# EAGLE library part MT29F16G08DAA (library SHC)
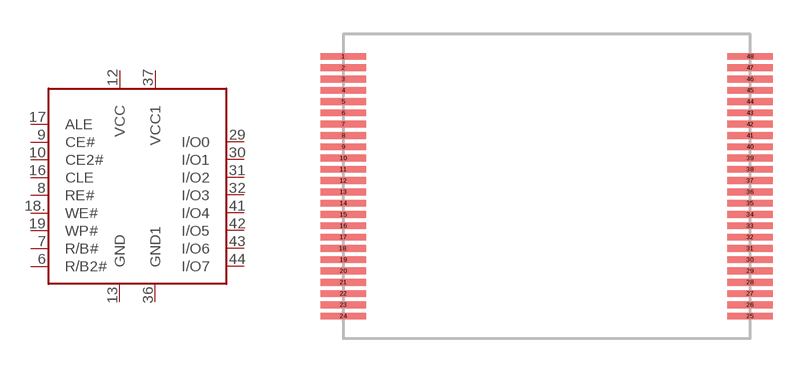
[diagram p1: symbol with the pads of MT29F16G08DAA; footprint MT29F16G08DAA]

Designator prefix -

## MT29F16G08DAA  [MT29F16G08DAA]
6  R/B2#
7  R/B#
8  RE#
9  CE#
10  CE2#
12  VCC
13  GND
16  CLE
17  ALE
18.  WE#
19  WP#
29  I/O0
30  I/O1
31  I/O2
32  I/O3
36  GND1
37  VCC1
41  I/O4
42  I/O5
43  I/O6
44  I/O7

## Footprint MT29F16G08DAA (pad centres in mm)
smd 2 x 0.3: 1 -9,6; 2 -9,5.5; 3 -9,5; 4 -9,4.5; 5 -9,4; 6 -9,3.5; 7 -9,3; 8 -9,2.5; 9 -9,2; 10 -9,1.5; 11 -9,1; 12 -9,0.5; 13 -9,0; 14 -9,-0.5; 15 -9,-1; 16 -9,-1.5; 17 -9,-2; 18. -9,-2.5; 19 -9,-3; 20 -9,-3.5; 21 -9,-4; 22 -9,-4.5; 23 -9,-5; 24 -9,-5.5; 25 9,-5.5; 26 9,-5; 27 9,-4.5; 28 9,-4; 29 9,-3.5; 30 9,-3; 31 9,-2.5; 32 9,-2; 33 9,-1.5; 34 9,-1; 35 9,-0.5; 36 9,0; 37 9,0.5; 38 9,1; 39 9,1.5; 40 9,2; 41 9,2.5; 42 9,3; 43 9,3.5; 44 9,4; 45 9,4.5; 46 9,5; 47 9,5.5; 48 9,6